# Altium schematic symbol library J2.SchLib: 1 symbol
Pins are listed as number, name and electrical type; pins without a type are passive.

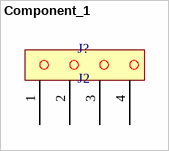
[diagram p0: symbol Component_1]

## Component_1
designator J?, comment J2
pins: 1, 2, 3, 4